# EAGLE library part LIS331DLH (library ANIMAlib)
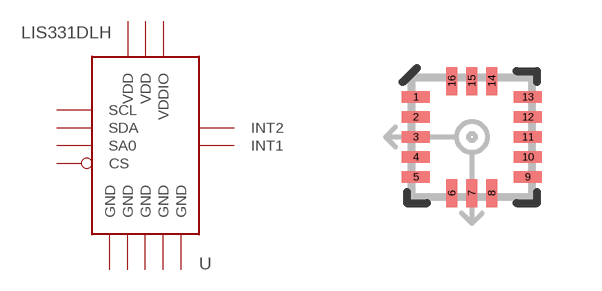
[diagram p22: symbol with the pads of LGA16-3MM_ST; footprint LGA16-3MM_ST]

Designator prefix U

## LIS331DLH  [LGA16-3MM_ST]
1  VDDIO  pas
4  SCL  pas
5  GND  pas
6  SDA  pas
7  SA0  pas
8  CS  pas
9  INT2  pas
10  GND  pas
11  INT1  pas
12  GND  pas
13  GND  pas
14  VDD  pas
15  VDD  pas
16  GND  pas

## Footprint LGA16-3MM_ST (pad centres in mm)
LGA16 (3x3x1mm) needs to be more thouroughly checked
smd 0.7 x 0.28: 1 -1.4,1; 2 -1.4,0.5; 3 -1.4,0; 4 -1.4,-0.5; 5 -1.4,-1; 9 1.4,-1; 10 1.4,-0.5; 11 1.4,0; 12 1.4,0.5; 13 1.4,1
smd 0.28 x 0.7: 6 -0.5,-1.4; 7 0,-1.4; 8 0.5,-1.4; 14 0.5,1.4; 15 0,1.4; 16 -0.5,1.4